# EAGLE library part 74*4051 (library SparkFun-IC-Logic)
NXP 74HC4051 8-Channel Analog Multiplexer/Demultiplexer The 74HC4051; 74HCT4051 is a single-pole octal-throw analog switch (SP8T) suitable for use in analog or digital 8:1 multiplexer/demultiplexer applications. The switch features three digital select inputs (S0, S1 and S2), eight independent inputs/outputs (Yn), a common input/output (Z) and a digital enable input (E). When E is HIGH, the switches are turned off. Inputs include clamp diodes. This enables the use of current limiting resistors to interface inputs to voltages in excess of VCC. Datasheet <http://www.nxp.com/documents/data_sheet/74HC_HCT4051.pdf>
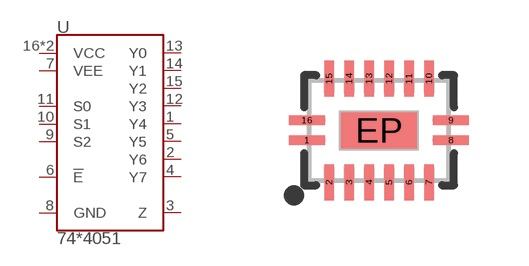
[diagram p9: symbol with the pads of DHVQFN-16-2.5X3.5MM; footprint DHVQFN-16-2.5X3.5MM]

Designator prefix U

## 74HC4051BQ (PROD_ID: IC-13334)  [DHVQFN-16-2.5X3.5MM]
1  Y4
2  Y6
3  Z
4  Y7
5  Y5
6  !E!
7  VEE
8  GND
9  S2
10  S1
11  S0
12  Y3
13  Y0
14  Y1
15  Y2
16  VCC
EP  VCC

## Footprint DHVQFN-16-2.5X3.5MM (pad centres in mm)
16-Pin DHVQFN (SOT763-1) - 2.5 x 3.5 x 0.85 mm Package used by NXP 74HC4051BQ 8-channel analog mux/demux. NXP Footprint for reflow soldering <http://cache.nxp.com/documents/reflow_soldering/sot763-1_fr.pdf> Example Datasheet <http://www.nxp.com/documents/data_sheet/74HC_HCT4051.pdf>
smd 0.9 x 0.24: 1 -1.8,-0.25; 8 1.8,-0.25; 9 1.8,0.25; 16 -1.8,0.25
smd 0.24 x 0.9: 2 -1.25,-1.3; 3 -0.75,-1.3; 4 -0.25,-1.3; 5 0.25,-1.3; 6 0.75,-1.3; 7 1.25,-1.3; 10 1.25,1.3; 11 0.75,1.3; 12 0.25,1.3; 13 -0.25,1.3; 14 -0.75,1.3; 15 -1.25,1.3
smd 1.9 x 0.9: EP 0,0